# Altium schematic symbol library 栅极驱动IC.SchLib: 3 symbols
Pins are listed as number, name and electrical type; pins without a type are passive.

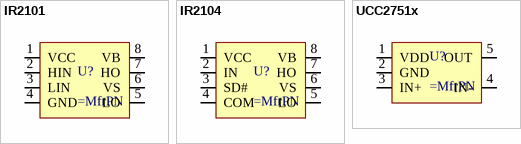
[diagram p0: symbols IR2101 to UCC2751x]

## IR2101
designator U?
pins: 1 VCC, 2 HIN, 3 LIN, 4 GND, 5 LO, 6 VS, 7 HO, 8 VB

## IR2104
designator U?
pins: 1 VCC, 2 IN, 3 SD#, 4 COM, 5 LO, 6 VS, 7 HO, 8 VB

## UCC2751x
designator U?
pins: 1 VDD, 2 GND, 3 IN+, 4 IN-, 5 OUT